# Altium integrated library Capacitor - Aluminium TH.IntLib: 4591 symbols (part 40 of 68)
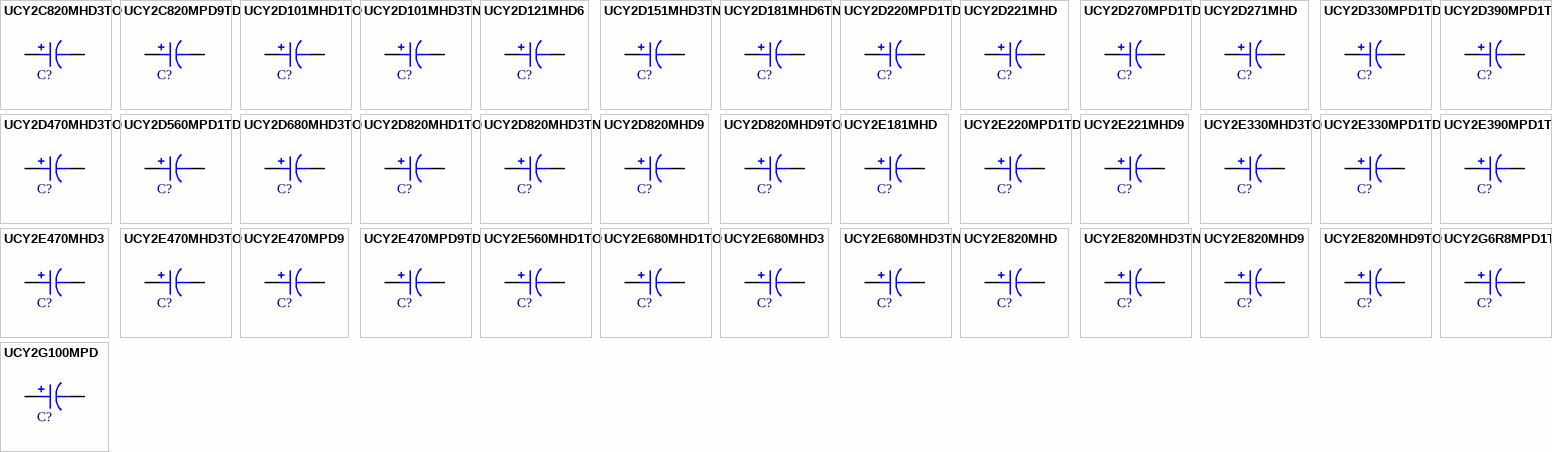
[diagram p153: symbols UCY2C820MHD3TO to UCY2G100MPD]

## UCY2E680MHD1TO
designator C?, comment 68uF  (value not drawn)
CAP ALUM 68UF 20% 250V RADIAL; Part Number: UCY2E680MHD1TO; Manufacturer: Nichicon; TemperatureRange: -40C ~ 105C; Type: Polar; Ripple Current: 615mA @ 120Hz; Value: 68uF; PartId: 23640; Supplier 1: Digi-Key; Supplier Part Number 1: 493-4821-3-ND; ComponentLink1Description: Datasheet; ComponentLink1URL: http://nichicon-us.com/english/products/pdfs/e-ucy.pdf; ComponentLink2Description: Digi-Key Listing; ComponentLink2URL: https://www.digikey.com/product-detail/en/nichicon/UCY2E680MHD1TO/493-4821-3-ND/3129826; Tolerance: 20%; Voltage: 250V; Price: 0.6082; Device Package: Radial, Can, 12.5mm
footprint CAP AL TH D12.5 L5 H26.5
pins: 1, 2

## UCY2E680MHD3
designator C?, comment 68uF  (value not drawn)
CAP ALUM 68UF 20% 250V RADIAL; Part Number: UCY2E680MHD3; Manufacturer: Nichicon; TemperatureRange: -40C ~ 105C; Type: Polar; Ripple Current: 650mA @ 120Hz; Value: 68uF; PartId: 26467; Supplier 1: Digi-Key; Supplier Part Number 1: 493-5932-ND; ComponentLink1Description: Datasheet; ComponentLink1URL: http://nichicon-us.com/english/products/pdfs/e-ucy.pdf; ComponentLink2Description: Digi-Key Listing; ComponentLink2URL: https://www.digikey.com/product-detail/en/nichicon/UCY2E680MHD3/493-5932-ND/2539808; Tolerance: 20%; Voltage: 250V; Price: 1.56; Device Package: Radial, Can, 16mm
footprint CAP AL TH D16 L7.5 H22
pins: 1, 2

## UCY2E680MHD3TN
designator C?, comment 68uF  (value not drawn)
CAP ALUM 68UF 20% 250V RADIAL; Part Number: UCY2E680MHD3TN; Manufacturer: Nichicon; TemperatureRange: -40C ~ 105C; Type: Polar; Ripple Current: 650mA @ 120Hz; Value: 68uF; PartId: 26390; Supplier 1: Digi-Key; Supplier Part Number 1: 493-4822-3-ND; ComponentLink1Description: Datasheet; ComponentLink1URL: http://nichicon-us.com/english/products/pdfs/e-ucy.pdf; ComponentLink2Description: Digi-Key Listing; ComponentLink2URL: https://www.digikey.com/product-detail/en/nichicon/UCY2E680MHD3TN/493-4822-3-ND/3129827; Tolerance: 20%; Voltage: 250V; Price: 0.8188; Device Package: Radial, Can, 16mm
footprint CAP AL TH D16 L7.5 H22
pins: 1, 2

## UCY2E820MHD
designator C?, comment 82uF  (value not drawn)
CAP ALUM 82UF 20% 250V RADIAL; Part Number: UCY2E820MHD; Manufacturer: Nichicon; TemperatureRange: -40C ~ 105C; Type: Polar; Ripple Current: 715mA @ 120Hz; Value: 82uF; PartId: 24374; Supplier 1: Digi-Key; Supplier Part Number 1: 493-5464-ND; ComponentLink1Description: Datasheet; ComponentLink1URL: http://nichicon-us.com/english/products/pdfs/e-ucy.pdf; ComponentLink2Description: Digi-Key Listing; ComponentLink2URL: https://www.digikey.com/product-detail/en/nichicon/UCY2E820MHD/493-5464-ND/2597734; Tolerance: 20%; Voltage: 250V; Price: 1.62; Device Package: Radial, Can, 12.5mm
footprint CAP AL TH D12.5 L5 H35.5
pins: 1, 2

## UCY2E820MHD3TN
designator C?, comment 82uF  (value not drawn)
CAP ALUM 82UF 20% 250V RADIAL; Part Number: UCY2E820MHD3TN; Manufacturer: Nichicon; TemperatureRange: -40C ~ 105C; Type: Polar; Ripple Current: 690mA @ 120Hz; Value: 82uF; PartId: 26396; Supplier 1: Digi-Key; Supplier Part Number 1: 493-4823-3-ND; ComponentLink1Description: Datasheet; ComponentLink1URL: http://nichicon-us.com/english/products/pdfs/e-ucy.pdf; ComponentLink2Description: Digi-Key Listing; ComponentLink2URL: https://www.digikey.com/product-detail/en/nichicon/UCY2E820MHD3TN/493-4823-3-ND/3129828; Tolerance: 20%; Voltage: 250V; Price: 0.8566; Device Package: Radial, Can, 16mm
footprint CAP AL TH D16 L7.5 H22
pins: 1, 2

## UCY2E820MHD9
designator C?, comment 82uF  (value not drawn)
CAP ALUM 82UF 20% 250V RADIAL; Part Number: UCY2E820MHD9; Manufacturer: Nichicon; TemperatureRange: -40C ~ 105C; Type: Polar; Ripple Current: 615mA @ 120Hz; Value: 82uF; PartId: 23739; Supplier 1: Digi-Key; Supplier Part Number 1: 493-6899-ND; ComponentLink1Description: Datasheet; ComponentLink1URL: http://nichicon-us.com/english/products/pdfs/e-ucy.pdf; ComponentLink2Description: Digi-Key Listing; ComponentLink2URL: https://www.digikey.com/product-detail/en/nichicon/UCY2E820MHD9/493-6899-ND/3664486; Tolerance: 20%; Voltage: 250V; Price: 1.55; Device Package: Radial, Can, 12.5mm
footprint CAP AL TH D12.5 L5 H26.5
pins: 1, 2

## UCY2E820MHD9TO
designator C?, comment 82uF  (value not drawn)
CAP ALUM 82UF 20% 250V RADIAL; Part Number: UCY2E820MHD9TO; Manufacturer: Nichicon; TemperatureRange: -40C ~ 105C; Type: Polar; Ripple Current: 615mA @ 120Hz; Value: 82uF; PartId: 23645; Supplier 1: Digi-Key; Supplier Part Number 1: 493-13312-3-ND; ComponentLink1Description: Datasheet; ComponentLink1URL: http://nichicon-us.com/english/products/pdfs/e-ucy.pdf; ComponentLink2Description: Digi-Key Listing; ComponentLink2URL: https://www.digikey.com/product-detail/en/nichicon/UCY2E820MHD9TO/493-13312-3-ND/4332943; Tolerance: 20%; Voltage: 250V; Price: 0.6934; Device Package: Radial, Can, 12.5mm
footprint CAP AL TH D12.5 L5 H26.5
pins: 1, 2

## UCY2G6R8MPD1TD
designator C?, comment 6.8uF  (value not drawn)
CAP ALUM 6.8UF 20% 400V RADIAL; Part Number: UCY2G6R8MPD1TD; Manufacturer: Nichicon; TemperatureRange: -40C ~ 105C; Type: Polar; Ripple Current: 140mA @ 120Hz; Value: 6.8uF; PartId: 25099; Supplier 1: Digi-Key; Supplier Part Number 1: 493-13319-3-ND; ComponentLink1Description: Datasheet; ComponentLink1URL: http://nichicon-us.com/english/products/pdfs/e-ucy.pdf; ComponentLink2Description: Digi-Key Listing; ComponentLink2URL: https://www.digikey.com/product-detail/en/nichicon/UCY2G6R8MPD1TD/493-13319-3-ND/4332950; Tolerance: 20%; Voltage: 400V; Price: 0.2806; Device Package: Radial, Can, 10mm
footprint CAP AL TH D10 L5 H17.5
pins: 1, 2

## UCY2G100MPD
designator C?, comment 10uF  (value not drawn)
CAP ALUM 10UF 20% 400V RADIAL; Part Number: UCY2G100MPD; Manufacturer: Nichicon; TemperatureRange: -40C ~ 105C; Type: Polar; Ripple Current: 150mA @ 120Hz; Value: 10uF; PartId: 25401; Supplier 1: Digi-Key; Supplier Part Number 1: 493-13387-ND; ComponentLink1Description: Datasheet; ComponentLink1URL: http://nichicon-us.com/english/products/pdfs/e-ucy.pdf; ComponentLink2Description: Digi-Key Listing; ComponentLink2URL: https://www.digikey.com/product-detail/en/nichicon/UCY2G100MPD/493-13387-ND/2597735; Tolerance: 20%; Voltage: 400V; Price: 0.8; Device Package: Radial, Can, 10mm
footprint CAP AL TH D10 L5 H17.5
pins: 1, 2

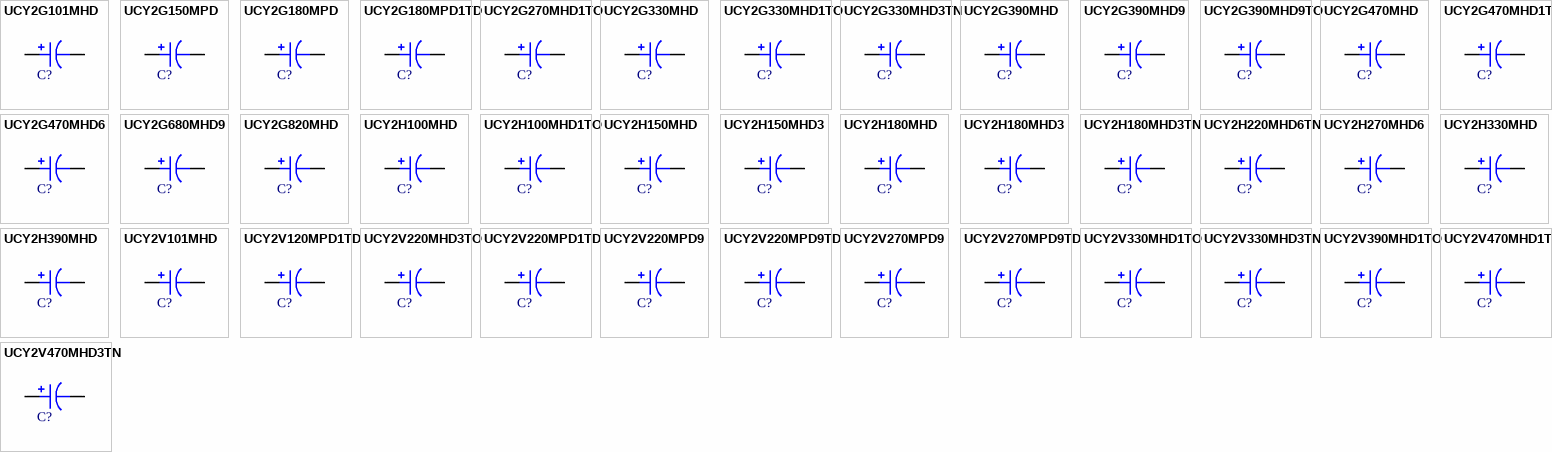
[diagram p65: symbols UCY2G101MHD to UCY2V470MHD3TN]

## UCY2G101MHD
designator C?, comment 100uF  (value not drawn)
CAP ALUM 100UF 20% 400V RADIAL; Part Number: UCY2G101MHD; Manufacturer: Nichicon; TemperatureRange: -40C ~ 105C; Type: Polar; Ripple Current: 850mA @ 120Hz; Value: 100uF; PartId: 27434; Supplier 1: Digi-Key; Supplier Part Number 1: 493-13075-ND; ComponentLink1Description: Datasheet; ComponentLink1URL: http://nichicon-us.com/english/products/pdfs/e-ucy.pdf; ComponentLink2Description: Digi-Key Listing; ComponentLink2URL: https://www.digikey.com/product-detail/en/nichicon/UCY2G101MHD/493-13075-ND/2597736; Tolerance: 20%; Voltage: 400V; Price: 3.28; Device Package: Radial, Can, 16mm
footprint CAP AL TH D16 L7.5 H37
pins: 1, 2

## UCY2G150MPD
designator C?, comment 15uF  (value not drawn)
CAP ALUM 15UF 20% 400V RADIAL; Part Number: UCY2G150MPD; Manufacturer: Nichicon; TemperatureRange: -40C ~ 105C; Type: Polar; Ripple Current: 180mA @ 120Hz; Value: 15uF; PartId: 25701; Supplier 1: Digi-Key; Supplier Part Number 1: 493-14460-ND; ComponentLink1Description: Datasheet; ComponentLink1URL: http://nichicon-us.com/english/products/pdfs/e-ucy.pdf; ComponentLink2Description: Digi-Key Listing; ComponentLink2URL: https://www.digikey.com/product-detail/en/nichicon/UCY2G150MPD/493-14460-ND/2597740; Tolerance: 20%; Voltage: 400V; Price: 0.87; Device Package: Radial, Can, 10mm
footprint CAP AL TH D10 L5 H22
pins: 1, 2

## UCY2G180MPD
designator C?, comment 18uF  (value not drawn)
CAP ALUM 18UF 20% 400V RADIAL; Part Number: UCY2G180MPD; Manufacturer: Nichicon; TemperatureRange: -40C ~ 105C; Type: Polar; Ripple Current: 235mA @ 120Hz; Value: 18uF; PartId: 26179; Supplier 1: Digi-Key; Supplier Part Number 1: 493-14461-ND; ComponentLink1Description: Datasheet; ComponentLink1URL: http://nichicon-us.com/english/products/pdfs/e-ucy.pdf; ComponentLink2Description: Digi-Key Listing; ComponentLink2URL: https://www.digikey.com/product-detail/en/nichicon/UCY2G180MPD/493-14461-ND/2597742; Tolerance: 20%; Voltage: 400V; Price: 0.99; Device Package: Radial, Can, 10mm
footprint CAP AL TH D10 L5 H30
pins: 1, 2

## UCY2G180MPD1TD
designator C?, comment 18uF  (value not drawn)
CAP ALUM 18UF 20% 400V RADIAL; Part Number: UCY2G180MPD1TD; Manufacturer: Nichicon; TemperatureRange: -40C ~ 105C; Type: Polar; Ripple Current: 235mA @ 120Hz; Value: 18uF; PartId: 26030; Supplier 1: Digi-Key; Supplier Part Number 1: 493-4824-3-ND; ComponentLink1Description: Datasheet; ComponentLink1URL: http://nichicon-us.com/english/products/pdfs/e-ucy.pdf; ComponentLink2Description: Digi-Key Listing; ComponentLink2URL: https://www.digikey.com/product-detail/en/nichicon/UCY2G180MPD1TD/493-4824-3-ND/3129829; Tolerance: 20%; Voltage: 400V; Price: 0.4428; Device Package: Radial, Can, 10mm
footprint CAP AL TH D10 L5 H30
pins: 1, 2

## UCY2G270MHD1TO
designator C?, comment 27uF  (value not drawn)
CAP ALUM 27UF 20% 400V RADIAL; Part Number: UCY2G270MHD1TO; Manufacturer: Nichicon; TemperatureRange: -40C ~ 105C; Type: Polar; Ripple Current: 360mA; Value: 27uF; PartId: 23056; Supplier 1: Digi-Key; Supplier Part Number 1: 493-4825-1-ND; ComponentLink1Description: Datasheet; ComponentLink1URL: http://nichicon-us.com/english/products/pdfs/e-ucy.pdf; ComponentLink2Description: Digi-Key Listing; ComponentLink2URL: https://www.digikey.com/product-detail/en/nichicon/UCY2G270MHD1TO/493-4825-1-ND/3129162; Tolerance: 20%; Voltage: 400V; Price: 0; Device Package: Radial, Can, 12.5mm
footprint CAP AL TH D12.5 L5 H21.5
pins: 1, 2

## UCY2G330MHD
designator C?, comment 33uF  (value not drawn)
CAP ALUM 33UF 20% 400V RADIAL; Part Number: UCY2G330MHD; Manufacturer: Nichicon; TemperatureRange: -40C ~ 105C; Type: Polar; Ripple Current: 385mA @ 120Hz; Value: 33uF; PartId: 23747; Supplier 1: Digi-Key; Supplier Part Number 1: 493-14462-ND; ComponentLink1Description: Datasheet; ComponentLink1URL: http://nichicon-us.com/english/products/pdfs/e-ucy.pdf; ComponentLink2Description: Digi-Key Listing; ComponentLink2URL: https://www.digikey.com/product-detail/en/nichicon/UCY2G330MHD/493-14462-ND/2597746; Tolerance: 20%; Voltage: 400V; Price: 1.67; Device Package: Radial, Can, 12.5mm
footprint CAP AL TH D12.5 L5 H26.5
pins: 1, 2

## UCY2G330MHD1TO
designator C?, comment 33uF  (value not drawn)
CAP ALUM 33UF 20% 400V RADIAL; Part Number: UCY2G330MHD1TO; Manufacturer: Nichicon; TemperatureRange: -40C ~ 105C; Type: Polar; Ripple Current: 385mA @ 120Hz; Value: 33uF; PartId: 23648; Supplier 1: Digi-Key; Supplier Part Number 1: 493-13316-3-ND; ComponentLink1Description: Datasheet; ComponentLink1URL: http://nichicon-us.com/english/products/pdfs/e-ucy.pdf; ComponentLink2Description: Digi-Key Listing; ComponentLink2URL: https://www.digikey.com/product-detail/en/nichicon/UCY2G330MHD1TO/493-13316-3-ND/4332947; Tolerance: 20%; Voltage: 400V; Price: 0.7475; Device Package: Radial, Can, 12.5mm
footprint CAP AL TH D12.5 L5 H26.5
pins: 1, 2

## UCY2G330MHD3TN
designator C?, comment 33uF  (value not drawn)
CAP ALUM 33UF 20% 400V RADIAL; Part Number: UCY2G330MHD3TN; Manufacturer: Nichicon; TemperatureRange: -40C ~ 105C; Type: Polar; Ripple Current: 450mA @ 120Hz; Value: 33uF; PartId: 26398; Supplier 1: Digi-Key; Supplier Part Number 1: 493-4826-3-ND; ComponentLink1Description: Datasheet; ComponentLink1URL: http://nichicon-us.com/english/products/pdfs/e-ucy.pdf; ComponentLink2Description: Digi-Key Listing; ComponentLink2URL: https://www.digikey.com/product-detail/en/nichicon/UCY2G330MHD3TN/493-4826-3-ND/3129831; Tolerance: 20%; Voltage: 400V; Price: 0.9045; Device Package: Radial, Can, 16mm
footprint CAP AL TH D16 L7.5 H22
pins: 1, 2

## UCY2G390MHD
designator C?, comment 39uF  (value not drawn)
CAP ALUM 39UF 20% 400V RADIAL; Part Number: UCY2G390MHD; Manufacturer: Nichicon; TemperatureRange: -40C ~ 105C; Type: Polar; Ripple Current: 465mA @ 120Hz; Value: 39uF; PartId: 24387; Supplier 1: Digi-Key; Supplier Part Number 1: 493-5469-ND; ComponentLink1Description: Datasheet; ComponentLink1URL: http://nichicon-us.com/english/products/pdfs/e-ucy.pdf; ComponentLink2Description: Digi-Key Listing; ComponentLink2URL: https://www.digikey.com/product-detail/en/nichicon/UCY2G390MHD/493-5469-ND/2597747; Tolerance: 20%; Voltage: 400V; Price: 1.74; Device Package: Radial, Can, 12.5mm
footprint CAP AL TH D12.5 L5 H35.5
pins: 1, 2

## UCY2G390MHD9
designator C?, comment 39uF  (value not drawn)
CAP ALUM 39UF 20% 400V RADIAL; Part Number: UCY2G390MHD9; Manufacturer: Nichicon; TemperatureRange: -40C ~ 105C; Type: Polar; Ripple Current: 385mA @ 120Hz; Value: 39uF; PartId: 23760; Supplier 1: Digi-Key; Supplier Part Number 1: 493-6980-ND; ComponentLink1Description: Datasheet; ComponentLink1URL: http://nichicon-us.com/english/products/pdfs/e-ucy.pdf; ComponentLink2Description: Digi-Key Listing; ComponentLink2URL: https://www.digikey.com/product-detail/en/nichicon/UCY2G390MHD9/493-6980-ND/3664469; Tolerance: 20%; Voltage: 400V; Price: 1.77; Device Package: Radial, Can, 12.5mm
footprint CAP AL TH D12.5 L5 H26.5
pins: 1, 2

## UCY2G390MHD9TO
designator C?, comment 39uF  (value not drawn)
CAP ALUM 39UF 20% 400V RADIAL; Part Number: UCY2G390MHD9TO; Manufacturer: Nichicon; TemperatureRange: -40C ~ 105C; Type: Polar; Ripple Current: 385mA @ 120Hz; Value: 39uF; PartId: 23649; Supplier 1: Digi-Key; Supplier Part Number 1: 493-13317-3-ND; ComponentLink1Description: Datasheet; ComponentLink1URL: http://nichicon-us.com/english/products/pdfs/e-ucy.pdf; ComponentLink2Description: Digi-Key Listing; ComponentLink2URL: https://www.digikey.com/product-detail/en/nichicon/UCY2G390MHD9TO/493-13317-3-ND/4332948; Tolerance: 20%; Voltage: 400V; Price: 0.7911; Device Package: Radial, Can, 12.5mm
footprint CAP AL TH D12.5 L5 H26.5
pins: 1, 2

## UCY2G470MHD
designator C?, comment 47uF  (value not drawn)
CAP ALUM 47UF 20% 400V RADIAL; Part Number: UCY2G470MHD; Manufacturer: Nichicon; TemperatureRange: -40C ~ 105C; Type: Polar; Ripple Current: 520mA @ 120Hz; Value: 47uF; PartId: 26486; Supplier 1: Digi-Key; Supplier Part Number 1: 493-14463-ND; ComponentLink1Description: Datasheet; ComponentLink1URL: http://nichicon-us.com/english/products/pdfs/e-ucy.pdf; ComponentLink2Description: Digi-Key Listing; ComponentLink2URL: https://www.digikey.com/product-detail/en/nichicon/UCY2G470MHD/493-14463-ND/2597748; Tolerance: 20%; Voltage: 400V; Price: 1.82; Device Package: Radial, Can, 16mm
footprint CAP AL TH D16 L7.5 H22
pins: 1, 2

## UCY2G470MHD1TN
designator C?, comment 47uF  (value not drawn)
CAP ALUM 47UF 20% 400V RADIAL; Part Number: UCY2G470MHD1TN; Manufacturer: Nichicon; TemperatureRange: -40C ~ 105C; Type: Polar; Ripple Current: 520mA @ 120Hz; Value: 47uF; PartId: 26404; Supplier 1: Digi-Key; Supplier Part Number 1: 493-4827-3-ND; ComponentLink1Description: Datasheet; ComponentLink1URL: http://nichicon-us.com/english/products/pdfs/e-ucy.pdf; ComponentLink2Description: Digi-Key Listing; ComponentLink2URL: https://www.digikey.com/product-detail/en/nichicon/UCY2G470MHD1TN/493-4827-3-ND/3129832; Tolerance: 20%; Voltage: 400V; Price: 0.9635; Device Package: Radial, Can, 16mm
footprint CAP AL TH D16 L7.5 H22
pins: 1, 2

## UCY2G470MHD6
designator C?, comment 47uF  (value not drawn)
CAP ALUM 47UF 20% 400V RADIAL; Part Number: UCY2G470MHD6; Manufacturer: Nichicon; TemperatureRange: -40C ~ 105C; Type: Polar; Ripple Current: 510mA @ 120Hz; Value: 47uF; PartId: 24389; Supplier 1: Digi-Key; Supplier Part Number 1: 493-6890-ND; ComponentLink1Description: Datasheet; ComponentLink1URL: http://nichicon-us.com/english/products/pdfs/e-ucy.pdf; ComponentLink2Description: Digi-Key Listing; ComponentLink2URL: https://www.digikey.com/product-detail/en/nichicon/UCY2G470MHD6/493-6890-ND/3664411; Tolerance: 20%; Voltage: 400V; Price: 1.79; Device Package: Radial, Can, 12.5mm
footprint CAP AL TH D12.5 L5 H35.5
pins: 1, 2

## UCY2G680MHD9
designator C?, comment 68uF  (value not drawn)
CAP ALUM 68UF 20% 400V RADIAL; Part Number: UCY2G680MHD9; Manufacturer: Nichicon; TemperatureRange: -40C ~ 105C; Type: Polar; Ripple Current: 640mA @ 120Hz; Value: 68uF; PartId: 26717; Supplier 1: Digi-Key; Supplier Part Number 1: 493-6889-ND; ComponentLink1Description: Datasheet; ComponentLink1URL: http://nichicon-us.com/english/products/pdfs/e-ucy.pdf; ComponentLink2Description: Digi-Key Listing; ComponentLink2URL: https://www.digikey.com/product-detail/en/nichicon/UCY2G680MHD9/493-6889-ND/3664417; Tolerance: 20%; Voltage: 400V; Price: 2.57; Device Package: Radial, Can, 16mm
footprint CAP AL TH D16 L7.5 H26.5
pins: 1, 2

## UCY2G820MHD
designator C?, comment 82uF  (value not drawn)
CAP ALUM 82UF 20% 400V RADIAL; Part Number: UCY2G820MHD; Manufacturer: Nichicon; TemperatureRange: -40C ~ 105C; Type: Polar; Ripple Current: 805mA @ 120Hz; Value: 82uF; PartId: 27274; Supplier 1: Digi-Key; Supplier Part Number 1: 493-13078-ND; ComponentLink1Description: Datasheet; ComponentLink1URL: http://nichicon-us.com/english/products/pdfs/e-ucy.pdf; ComponentLink2Description: Digi-Key Listing; ComponentLink2URL: https://www.digikey.com/product-detail/en/nichicon/UCY2G820MHD/493-13078-ND/2597754; Tolerance: 20%; Voltage: 400V; Price: 3.05; Device Package: Radial, Can, 16mm
footprint CAP AL TH D16 L7.5 H33.5
pins: 1, 2

## UCY2H100MHD
designator C?, comment 10uF  (value not drawn)
CAP ALUM 10UF 20% 500V RADIAL; Part Number: UCY2H100MHD; Manufacturer: Nichicon; TemperatureRange: -25C ~ 105C; Type: Polar; Ripple Current: 160mA @ 120Hz; Value: 10uF; PartId: 23059; Supplier 1: Digi-Key; Supplier Part Number 1: 493-6892-ND; ComponentLink1Description: Datasheet; ComponentLink1URL: http://nichicon-us.com/english/products/pdfs/e-ucy.pdf; ComponentLink2Description: Digi-Key Listing; ComponentLink2URL: https://www.digikey.com/product-detail/en/nichicon/UCY2H100MHD/493-6892-ND/3664442; Tolerance: 20%; Voltage: 500V; Price: 0; Device Package: Radial, Can, 12.5mm
footprint CAP AL TH D12.5 L5 H21.5
pins: 1, 2

## UCY2H100MHD1TO
designator C?, comment 10uF  (value not drawn)
CAP ALUM 10UF 20% 500V RADIAL; Part Number: UCY2H100MHD1TO; Manufacturer: Nichicon; TemperatureRange: -25C ~ 105C; Type: Polar; Ripple Current: 160mA; Value: 10uF; PartId: 23067; Supplier 1: Digi-Key; Supplier Part Number 1: 493-13320-1-ND; ComponentLink1Description: Datasheet; ComponentLink1URL: http://nichicon-us.com/english/products/pdfs/e-ucy.pdf; ComponentLink2Description: Digi-Key Listing; ComponentLink2URL: https://www.digikey.com/product-detail/en/nichicon/UCY2H100MHD1TO/493-13320-1-ND/4333066; Tolerance: 20%; Voltage: 500V; Price: 0; Device Package: Radial, Can, 12.5mm
footprint CAP AL TH D12.5 L5 H21.5
pins: 1, 2

## UCY2H150MHD
designator C?, comment 15uF  (value not drawn)
CAP ALUM 15UF 20% 500V RADIAL; Part Number: UCY2H150MHD; Manufacturer: Nichicon; TemperatureRange: -25C ~ 105C; Type: Polar; Ripple Current: 220mA @ 120Hz; Value: 15uF; PartId: 23768; Supplier 1: Digi-Key; Supplier Part Number 1: 493-6954-ND; ComponentLink1Description: Datasheet; ComponentLink1URL: http://nichicon-us.com/english/products/pdfs/e-ucy.pdf; ComponentLink2Description: Digi-Key Listing; ComponentLink2URL: https://www.digikey.com/product-detail/en/nichicon/UCY2H150MHD/493-6954-ND/3664446; Tolerance: 20%; Voltage: 500V; Price: 1.87; Device Package: Radial, Can, 12.5mm
footprint CAP AL TH D12.5 L5 H26.5
pins: 1, 2

## UCY2H150MHD3
designator C?, comment 15uF  (value not drawn)
CAP ALUM 15UF 20% 500V RADIAL; Part Number: UCY2H150MHD3; Manufacturer: Nichicon; TemperatureRange: -25C ~ 105C; Type: Polar; Ripple Current: 220mA @ 120Hz; Value: 15uF; PartId: 26493; Supplier 1: Digi-Key; Supplier Part Number 1: 493-6917-ND; ComponentLink1Description: Datasheet; ComponentLink1URL: http://nichicon-us.com/english/products/pdfs/e-ucy.pdf; ComponentLink2Description: Digi-Key Listing; ComponentLink2URL: https://www.digikey.com/product-detail/en/nichicon/UCY2H150MHD3/493-6917-ND/3664449; Tolerance: 20%; Voltage: 500V; Price: 1.98; Device Package: Radial, Can, 16mm
footprint CAP AL TH D16 L7.5 H22
pins: 1, 2

## UCY2H180MHD
designator C?, comment 18uF  (value not drawn)
CAP ALUM 18UF 20% 500V RADIAL; Part Number: UCY2H180MHD; Manufacturer: Nichicon; TemperatureRange: -25C ~ 105C; Type: Polar; Ripple Current: 240mA @ 120Hz; Value: 18uF; PartId: 24410; Supplier 1: Digi-Key; Supplier Part Number 1: 493-6891-ND; ComponentLink1Description: Datasheet; ComponentLink1URL: http://nichicon-us.com/english/products/pdfs/e-ucy.pdf; ComponentLink2Description: Digi-Key Listing; ComponentLink2URL: https://www.digikey.com/product-detail/en/nichicon/UCY2H180MHD/493-6891-ND/3664491; Tolerance: 20%; Voltage: 500V; Price: 2; Device Package: Radial, Can, 12.5mm
footprint CAP AL TH D12.5 L5 H35.5
pins: 1, 2

## UCY2H180MHD3
designator C?, comment 18uF  (value not drawn)
CAP ALUM 18UF 20% 500V RADIAL; Part Number: UCY2H180MHD3; Manufacturer: Nichicon; TemperatureRange: -25C ~ 105C; Type: Polar; Ripple Current: 240mA @ 120Hz; Value: 18uF; PartId: 26496; Supplier 1: Digi-Key; Supplier Part Number 1: 493-6937-ND; ComponentLink1Description: Datasheet; ComponentLink1URL: http://nichicon-us.com/english/products/pdfs/e-ucy.pdf; ComponentLink2Description: Digi-Key Listing; ComponentLink2URL: https://www.digikey.com/product-detail/en/nichicon/UCY2H180MHD3/493-6937-ND/3664453; Tolerance: 20%; Voltage: 500V; Price: 2.2; Device Package: Radial, Can, 16mm
footprint CAP AL TH D16 L7.5 H22
pins: 1, 2

## UCY2H180MHD3TN
designator C?, comment 18uF  (value not drawn)
CAP ALUM 18UF 20% 500V RADIAL; Part Number: UCY2H180MHD3TN; Manufacturer: Nichicon; TemperatureRange: -25C ~ 105C; Type: Polar; Ripple Current: 240mA @ 120Hz; Value: 18uF; PartId: 26418; Supplier 1: Digi-Key; Supplier Part Number 1: 493-13323-3-ND; ComponentLink1Description: Datasheet; ComponentLink1URL: http://nichicon-us.com/english/products/pdfs/e-ucy.pdf; ComponentLink2Description: Digi-Key Listing; ComponentLink2URL: https://www.digikey.com/product-detail/en/nichicon/UCY2H180MHD3TN/493-13323-3-ND/4332954; Tolerance: 20%; Voltage: 500V; Price: 1.1638; Device Package: Radial, Can, 16mm
footprint CAP AL TH D16 L7.5 H22
pins: 1, 2

## UCY2H220MHD6TN
designator C?, comment 22uF  (value not drawn)
CAP ALUM 22UF 20% 500V RADIAL; Part Number: UCY2H220MHD6TN; Manufacturer: Nichicon; TemperatureRange: -25C ~ 105C; Type: Polar; Ripple Current: 280mA @ 120Hz; Value: 22uF; PartId: 26599; Supplier 1: Digi-Key; Supplier Part Number 1: 493-13325-3-ND; ComponentLink1Description: Datasheet; ComponentLink1URL: http://nichicon-us.com/english/products/pdfs/e-ucy.pdf; ComponentLink2Description: Digi-Key Listing; ComponentLink2URL: https://www.digikey.com/product-detail/en/nichicon/UCY2H220MHD6TN/493-13325-3-ND/4332956; Tolerance: 20%; Voltage: 500V; Price: 1.3276; Device Package: Radial, Can, 16mm
footprint CAP AL TH D16 L7.5 H26.5
pins: 1, 2

## UCY2H270MHD6
designator C?, comment 27uF  (value not drawn)
CAP ALUM 27UF 20% 500V RADIAL; Part Number: UCY2H270MHD6; Manufacturer: Nichicon; TemperatureRange: -25C ~ 105C; Type: Polar; Ripple Current: 310mA @ 120Hz; Value: 27uF; PartId: 26723; Supplier 1: Digi-Key; Supplier Part Number 1: 493-6815-ND; ComponentLink1Description: Datasheet; ComponentLink1URL: http://nichicon-us.com/english/products/pdfs/e-ucy.pdf; ComponentLink2Description: Digi-Key Listing; ComponentLink2URL: https://www.digikey.com/product-detail/en/nichicon/UCY2H270MHD6/493-6815-ND/3664372; Tolerance: 20%; Voltage: 500V; Price: 2.79; Device Package: Radial, Can, 16mm
footprint CAP AL TH D16 L7.5 H26.5
pins: 1, 2

## UCY2H330MHD
designator C?, comment 33uF  (value not drawn)
CAP ALUM 33UF 20% 500V RADIAL; Part Number: UCY2H330MHD; Manufacturer: Nichicon; TemperatureRange: -25C ~ 105C; Type: Polar; Ripple Current: 350mA @ 120Hz; Value: 33uF; PartId: 27297; Supplier 1: Digi-Key; Supplier Part Number 1: 493-6920-ND; ComponentLink1Description: Datasheet; ComponentLink1URL: http://nichicon-us.com/english/products/pdfs/e-ucy.pdf; ComponentLink2Description: Digi-Key Listing; ComponentLink2URL: https://www.digikey.com/product-detail/en/nichicon/UCY2H330MHD/493-6920-ND/3664390; Tolerance: 20%; Voltage: 500V; Price: 3.36; Device Package: Radial, Can, 16mm
footprint CAP AL TH D16 L7.5 H33.5
pins: 1, 2

## UCY2H390MHD
designator C?, comment 39uF  (value not drawn)
CAP ALUM 39UF 20% 500V RADIAL; Part Number: UCY2H390MHD; Manufacturer: Nichicon; TemperatureRange: -25C ~ 105C; Type: Polar; Ripple Current: 380mA @ 120Hz; Value: 39uF; PartId: 27443; Supplier 1: Digi-Key; Supplier Part Number 1: 493-6915-ND; ComponentLink1Description: Datasheet; ComponentLink1URL: http://nichicon-us.com/english/products/pdfs/e-ucy.pdf; ComponentLink2Description: Digi-Key Listing; ComponentLink2URL: https://www.digikey.com/product-detail/en/nichicon/UCY2H390MHD/493-6915-ND/3664475; Tolerance: 20%; Voltage: 500V; Price: 3.49; Device Package: Radial, Can, 16mm
footprint CAP AL TH D16 L7.5 H37
pins: 1, 2

## UCY2V101MHD
designator C?, comment 100uF  (value not drawn)
CAP ALUM 100UF 20% 350V RADIAL; Part Number: UCY2V101MHD; Manufacturer: Nichicon; TemperatureRange: -40C ~ 105C; Type: Polar; Ripple Current: 825mA @ 120Hz; Value: 100uF; PartId: 27252; Supplier 1: Digi-Key; Supplier Part Number 1: 493-5471-ND; ComponentLink1Description: Datasheet; ComponentLink1URL: http://nichicon-us.com/english/products/pdfs/e-ucy.pdf; ComponentLink2Description: Digi-Key Listing; ComponentLink2URL: https://www.digikey.com/product-detail/en/nichicon/UCY2V101MHD/493-5471-ND/2597755; Tolerance: 20%; Voltage: 350V; Price: 2.68; Device Package: Radial, Can, 16mm
footprint CAP AL TH D16 L7.5 H33.5
pins: 1, 2

## UCY2V120MPD1TD
designator C?, comment 12uF  (value not drawn)
CAP ALUM 12UF 20% 350V RADIAL; Part Number: UCY2V120MPD1TD; Manufacturer: Nichicon; TemperatureRange: -40C ~ 105C; Type: Polar; Ripple Current: 160mA @ 120Hz; Value: 12uF; PartId: 25111; Supplier 1: Digi-Key; Supplier Part Number 1: 493-4834-3-ND; ComponentLink1Description: Datasheet; ComponentLink1URL: http://nichicon-us.com/english/products/pdfs/e-ucy.pdf; ComponentLink2Description: Digi-Key Listing; ComponentLink2URL: https://www.digikey.com/product-detail/en/nichicon/UCY2V120MPD1TD/493-4834-3-ND/3129839; Tolerance: 20%; Voltage: 350V; Price: 0.3057; Device Package: Radial, Can, 10mm
footprint CAP AL TH D10 L5 H17.5
pins: 1, 2

## UCY2V220MHD3TO
designator C?, comment 22uF  (value not drawn)
CAP ALUM 22UF 20% 350V RADIAL; Part Number: UCY2V220MHD3TO; Manufacturer: Nichicon; TemperatureRange: -40C ~ 105C; Type: Polar; Ripple Current: 325mA; Value: 22uF; PartId: 23068; Supplier 1: Digi-Key; Supplier Part Number 1: 493-4835-1-ND; ComponentLink1Description: Datasheet; ComponentLink1URL: http://nichicon-us.com/english/products/pdfs/e-ucy.pdf; ComponentLink2Description: Digi-Key Listing; ComponentLink2URL: https://www.digikey.com/product-detail/en/nichicon/UCY2V220MHD3TO/493-4835-1-ND/3129172; Tolerance: 20%; Voltage: 350V; Price: 0; Device Package: Radial, Can, 12.5mm
footprint CAP AL TH D12.5 L5 H21.5
pins: 1, 2

## UCY2V220MPD1TD
designator C?, comment 22uF  (value not drawn)
CAP ALUM 22UF 20% 350V RADIAL; Part Number: UCY2V220MPD1TD; Manufacturer: Nichicon; TemperatureRange: -40C ~ 105C; Type: Polar; Ripple Current: 255mA @ 120Hz; Value: 22uF; PartId: 26031; Supplier 1: Digi-Key; Supplier Part Number 1: 493-4836-3-ND; ComponentLink1Description: Datasheet; ComponentLink1URL: http://nichicon-us.com/english/products/pdfs/e-ucy.pdf; ComponentLink2Description: Digi-Key Listing; ComponentLink2URL: https://www.digikey.com/product-detail/en/nichicon/UCY2V220MPD1TD/493-4836-3-ND/3129841; Tolerance: 20%; Voltage: 350V; Price: 0.4428; Device Package: Radial, Can, 10mm
footprint CAP AL TH D10 L5 H30
pins: 1, 2

## UCY2V220MPD9
designator C?, comment 22uF  (value not drawn)
CAP ALUM 22UF 20% 350V RADIAL; Part Number: UCY2V220MPD9; Manufacturer: Nichicon; TemperatureRange: -40C ~ 105C; Type: Polar; Ripple Current: 215mA @ 120Hz; Value: 22uF; PartId: 25708; Supplier 1: Digi-Key; Supplier Part Number 1: 493-6988-ND; ComponentLink1Description: Datasheet; ComponentLink1URL: http://nichicon-us.com/english/products/pdfs/e-ucy.pdf; ComponentLink2Description: Digi-Key Listing; ComponentLink2URL: https://www.digikey.com/product-detail/en/nichicon/UCY2V220MPD9/493-6988-ND/3664322; Tolerance: 20%; Voltage: 350V; Price: 1.02; Device Package: Radial, Can, 10mm
footprint CAP AL TH D10 L5 H22
pins: 1, 2

## UCY2V220MPD9TD
designator C?, comment 22uF  (value not drawn)
CAP ALUM 22UF 20% 350V RADIAL; Part Number: UCY2V220MPD9TD; Manufacturer: Nichicon; TemperatureRange: -40C ~ 105C; Type: Polar; Ripple Current: 215mA @ 120Hz; Value: 22uF; PartId: 25494; Supplier 1: Digi-Key; Supplier Part Number 1: 493-13330-3-ND; ComponentLink1Description: Datasheet; ComponentLink1URL: http://nichicon-us.com/english/products/pdfs/e-ucy.pdf; ComponentLink2Description: Digi-Key Listing; ComponentLink2URL: https://www.digikey.com/product-detail/en/nichicon/UCY2V220MPD9TD/493-13330-3-ND/4332961; Tolerance: 20%; Voltage: 350V; Price: 0.4289; Device Package: Radial, Can, 10mm
footprint CAP AL TH D10 L5 H22
pins: 1, 2

## UCY2V270MPD9
designator C?, comment 27uF  (value not drawn)
CAP ALUM 27UF 20% 350V RADIAL; Part Number: UCY2V270MPD9; Manufacturer: Nichicon; TemperatureRange: -40C ~ 105C; Type: Polar; Ripple Current: 255mA @ 120Hz; Value: 27uF; PartId: 26188; Supplier 1: Digi-Key; Supplier Part Number 1: 493-6834-ND; ComponentLink1Description: Datasheet; ComponentLink1URL: http://nichicon-us.com/english/products/pdfs/e-ucy.pdf; ComponentLink2Description: Digi-Key Listing; ComponentLink2URL: https://www.digikey.com/product-detail/en/nichicon/UCY2V270MPD9/493-6834-ND/3664327; Tolerance: 20%; Voltage: 350V; Price: 1.09; Device Package: Radial, Can, 10mm
footprint CAP AL TH D10 L5 H30
pins: 1, 2

## UCY2V270MPD9TD
designator C?, comment 27uF  (value not drawn)
CAP ALUM 27UF 20% 350V RADIAL; Part Number: UCY2V270MPD9TD; Manufacturer: Nichicon; TemperatureRange: -40C ~ 105C; Type: Polar; Ripple Current: 255mA @ 120Hz; Value: 27uF; PartId: 26037; Supplier 1: Digi-Key; Supplier Part Number 1: 493-13094-3-ND; ComponentLink1Description: Datasheet; ComponentLink1URL: http://nichicon-us.com/english/products/pdfs/e-ucy.pdf; ComponentLink2Description: Digi-Key Listing; ComponentLink2URL: https://www.digikey.com/product-detail/en/nichicon/UCY2V270MPD9TD/493-13094-3-ND/4332725; Tolerance: 20%; Voltage: 350V; Price: 0.4885; Device Package: Radial, Can, 10mm
footprint CAP AL TH D10 L5 H30
pins: 1, 2

## UCY2V330MHD1TO
designator C?, comment 33uF  (value not drawn)
CAP ALUM 33UF 20% 350V RADIAL; Part Number: UCY2V330MHD1TO; Manufacturer: Nichicon; TemperatureRange: -40C ~ 105C; Type: Polar; Ripple Current: 380mA; Value: 33uF; PartId: 23057; Supplier 1: Digi-Key; Supplier Part Number 1: 493-4837-1-ND; ComponentLink1Description: Datasheet; ComponentLink1URL: http://nichicon-us.com/english/products/pdfs/e-ucy.pdf; ComponentLink2Description: Digi-Key Listing; ComponentLink2URL: https://www.digikey.com/product-detail/en/nichicon/UCY2V330MHD1TO/493-4837-1-ND/3129174; Tolerance: 20%; Voltage: 350V; Price: 0; Device Package: Radial, Can, 12.5mm
footprint CAP AL TH D12.5 L5 H21.5
pins: 1, 2

## UCY2V330MHD3TN
designator C?, comment 33uF  (value not drawn)
CAP ALUM 33UF 20% 350V RADIAL; Part Number: UCY2V330MHD3TN; Manufacturer: Nichicon; TemperatureRange: -40C ~ 105C; Type: Polar; Ripple Current: 450mA @ 120Hz; Value: 33uF; PartId: 26383; Supplier 1: Digi-Key; Supplier Part Number 1: 493-4838-3-ND; ComponentLink1Description: Datasheet; ComponentLink1URL: http://nichicon-us.com/english/products/pdfs/e-ucy.pdf; ComponentLink2Description: Digi-Key Listing; ComponentLink2URL: https://www.digikey.com/product-detail/en/nichicon/UCY2V330MHD3TN/493-4838-3-ND/3129843; Tolerance: 20%; Voltage: 350V; Price: 0.7944; Device Package: Radial, Can, 16mm
footprint CAP AL TH D16 L7.5 H22
pins: 1, 2

## UCY2V390MHD1TO
designator C?, comment 39uF  (value not drawn)
CAP ALUM 39UF 20% 350V RADIAL; Part Number: UCY2V390MHD1TO; Manufacturer: Nichicon; TemperatureRange: -40C ~ 105C; Type: Polar; Ripple Current: 455mA; Value: 39uF; PartId: 23746; Supplier 1: Digi-Key; Supplier Part Number 1: 493-13331-1-ND; ComponentLink1Description: Datasheet; ComponentLink1URL: http://nichicon-us.com/english/products/pdfs/e-ucy.pdf; ComponentLink2Description: Digi-Key Listing; ComponentLink2URL: https://www.digikey.com/product-detail/en/nichicon/UCY2V390MHD1TO/493-13331-1-ND/4333054; Tolerance: 20%; Voltage: 350V; Price: 1.66; Device Package: Radial, Can, 12.5mm
footprint CAP AL TH D12.5 L5 H26.5
pins: 1, 2

## UCY2V470MHD1TO
designator C?, comment 47uF  (value not drawn)
CAP ALUM 47UF 20% 350V RADIAL; Part Number: UCY2V470MHD1TO; Manufacturer: Nichicon; TemperatureRange: -40C ~ 105C; Type: Polar; Ripple Current: 510mA; Value: 47uF; PartId: 23765; Supplier 1: Digi-Key; Supplier Part Number 1: 493-4839-1-ND; ComponentLink1Description: Datasheet; ComponentLink1URL: http://nichicon-us.com/english/products/pdfs/e-ucy.pdf; ComponentLink2Description: Digi-Key Listing; ComponentLink2URL: https://www.digikey.com/product-detail/en/nichicon/UCY2V470MHD1TO/493-4839-1-ND/3129176; Tolerance: 20%; Voltage: 350V; Price: 1.83; Device Package: Radial, Can, 12.5mm
footprint CAP AL TH D12.5 L5 H26.5
pins: 1, 2

## UCY2V470MHD3TN
designator C?, comment 47uF  (value not drawn)
CAP ALUM 47UF 20% 350V RADIAL; Part Number: UCY2V470MHD3TN; Manufacturer: Nichicon; TemperatureRange: -40C ~ 105C; Type: Polar; Ripple Current: 540mA @ 120Hz; Value: 47uF; PartId: 26399; Supplier 1: Digi-Key; Supplier Part Number 1: 493-4840-3-ND; ComponentLink1Description: Datasheet; ComponentLink1URL: http://nichicon-us.com/english/products/pdfs/e-ucy.pdf; ComponentLink2Description: Digi-Key Listing; ComponentLink2URL: https://www.digikey.com/product-detail/en/nichicon/UCY2V470MHD3TN/493-4840-3-ND/3129845; Tolerance: 20%; Voltage: 350V; Price: 0.9124; Device Package: Radial, Can, 16mm
footprint CAP AL TH D16 L7.5 H22
pins: 1, 2

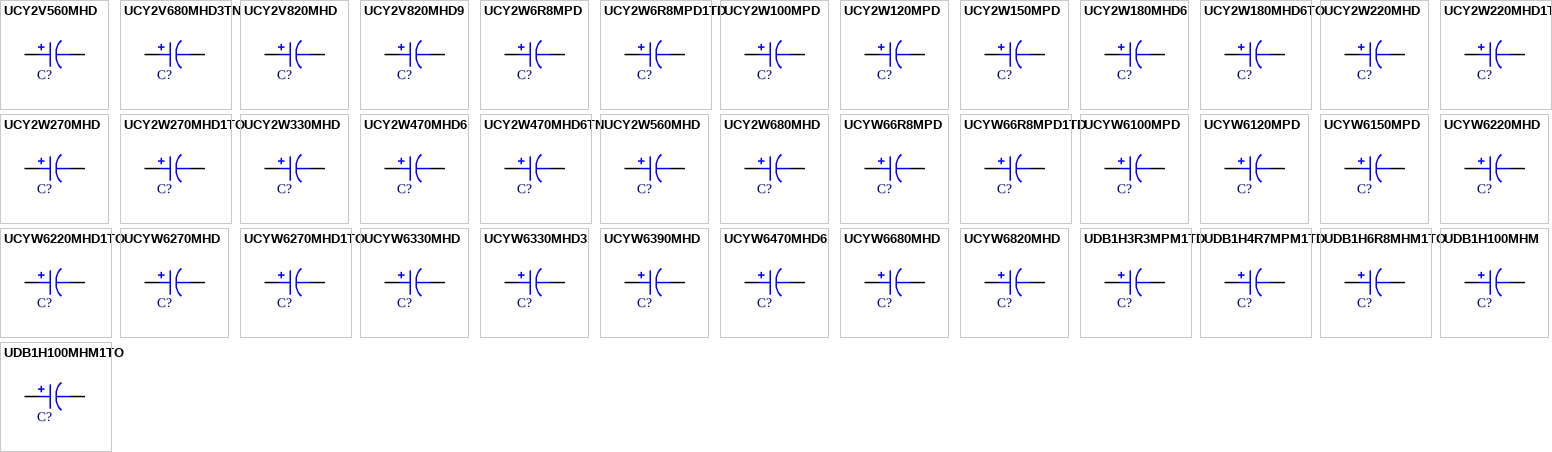
[diagram p66: symbols UCY2V560MHD to UDB1H100MHM1TO]

## UCY2V560MHD
designator C?, comment 56uF  (value not drawn)
CAP ALUM 56UF 20% 350V RADIAL; Part Number: UCY2V560MHD; Manufacturer: Nichicon; TemperatureRange: -40C ~ 105C; Type: Polar; Ripple Current: 590mA @ 120Hz; Value: 56uF; PartId: 24386; Supplier 1: Digi-Key; Supplier Part Number 1: 493-13081-ND; ComponentLink1Description: Datasheet; ComponentLink1URL: http://nichicon-us.com/english/products/pdfs/e-ucy.pdf; ComponentLink2Description: Digi-Key Listing; ComponentLink2URL: https://www.digikey.com/product-detail/en/nichicon/UCY2V560MHD/493-13081-ND/2597768; Tolerance: 20%; Voltage: 350V; Price: 1.74; Device Package: Radial, Can, 12.5mm
footprint CAP AL TH D12.5 L5 H35.5
pins: 1, 2

## UCY2V680MHD3TN
designator C?, comment 68uF  (value not drawn)
CAP ALUM 68UF 20% 350V RADIAL; Part Number: UCY2V680MHD3TN; Manufacturer: Nichicon; TemperatureRange: -40C ~ 105C; Type: Polar; Ripple Current: 700mA @ 120Hz; Value: 68uF; PartId: 26555; Supplier 1: Digi-Key; Supplier Part Number 1: 493-4841-3-ND; ComponentLink1Description: Datasheet; ComponentLink1URL: http://nichicon-us.com/english/products/pdfs/e-ucy.pdf; ComponentLink2Description: Digi-Key Listing; ComponentLink2URL: https://www.digikey.com/product-detail/en/nichicon/UCY2V680MHD3TN/493-4841-3-ND/3129846; Tolerance: 20%; Voltage: 350V; Price: 1.0766; Device Package: Radial, Can, 16mm
footprint CAP AL TH D16 L7.5 H26.5
pins: 1, 2

## UCY2V820MHD
designator C?, comment 82uF  (value not drawn)
CAP ALUM 82UF 20% 350V RADIAL; Part Number: UCY2V820MHD; Manufacturer: Nichicon; TemperatureRange: -40C ~ 105C; Type: Polar; Ripple Current: 740mA @ 120Hz; Value: 82uF; PartId: 27224; Supplier 1: Digi-Key; Supplier Part Number 1: 493-5476-ND; ComponentLink1Description: Datasheet; ComponentLink1URL: http://nichicon-us.com/english/products/pdfs/e-ucy.pdf; ComponentLink2Description: Digi-Key Listing; ComponentLink2URL: https://www.digikey.com/product-detail/en/nichicon/UCY2V820MHD/493-5476-ND/2597773; Tolerance: 20%; Voltage: 350V; Price: 2.36; Device Package: Radial, Can, 16mm
footprint CAP AL TH D16 L7.5 H33.5
pins: 1, 2

## UCY2V820MHD9
designator C?, comment 82uF  (value not drawn)
CAP ALUM 82UF 20% 350V RADIAL; Part Number: UCY2V820MHD9; Manufacturer: Nichicon; TemperatureRange: -40C ~ 105C; Type: Polar; Ripple Current: 700mA @ 120Hz; Value: 82uF; PartId: 26714; Supplier 1: Digi-Key; Supplier Part Number 1: 493-6941-ND; ComponentLink1Description: Datasheet; ComponentLink1URL: http://nichicon-us.com/english/products/pdfs/e-ucy.pdf; ComponentLink2Description: Digi-Key Listing; ComponentLink2URL: https://www.digikey.com/product-detail/en/nichicon/UCY2V820MHD9/493-6941-ND/3664334; Tolerance: 20%; Voltage: 350V; Price: 2.46; Device Package: Radial, Can, 16mm
footprint CAP AL TH D16 L7.5 H26.5
pins: 1, 2

## UCY2W6R8MPD
designator C?, comment 6.8uF  (value not drawn)
CAP ALUM 6.8UF 20% 450V RADIAL; Part Number: UCY2W6R8MPD; Manufacturer: Nichicon; TemperatureRange: -25C ~ 105C; Type: Polar; Ripple Current: 105mA @ 120Hz; Value: 6.8uF; PartId: 25408; Supplier 1: Digi-Key; Supplier Part Number 1: 493-6862-ND; ComponentLink1Description: Datasheet; ComponentLink1URL: http://nichicon-us.com/english/products/pdfs/e-ucy.pdf; ComponentLink2Description: Digi-Key Listing; ComponentLink2URL: https://www.digikey.com/product-detail/en/nichicon/UCY2W6R8MPD/493-6862-ND/3664436; Tolerance: 20%; Voltage: 450V; Price: 0.83; Device Package: Radial, Can, 10mm
footprint CAP AL TH D10 L5 H17.5
pins: 1, 2

## UCY2W6R8MPD1TD
designator C?, comment 6.8uF  (value not drawn)
CAP ALUM 6.8UF 20% 450V RADIAL; Part Number: UCY2W6R8MPD1TD; Manufacturer: Nichicon; TemperatureRange: -25C ~ 105C; Type: Polar; Ripple Current: 105mA @ 120Hz; Value: 6.8uF; PartId: 25122; Supplier 1: Digi-Key; Supplier Part Number 1: 493-13344-3-ND; ComponentLink1Description: Datasheet; ComponentLink1URL: http://nichicon-us.com/english/products/pdfs/e-ucy.pdf; ComponentLink2Description: Digi-Key Listing; ComponentLink2URL: https://www.digikey.com/product-detail/en/nichicon/UCY2W6R8MPD1TD/493-13344-3-ND/4332975; Tolerance: 20%; Voltage: 450V; Price: 0.3327; Device Package: Radial, Can, 10mm
footprint CAP AL TH D10 L5 H17.5
pins: 1, 2

## UCY2W100MPD
designator C?, comment 10uF  (value not drawn)
CAP ALUM 10UF 20% 450V RADIAL; Part Number: UCY2W100MPD; Manufacturer: Nichicon; TemperatureRange: -25C ~ 105C; Type: Polar; Ripple Current: 135mA @ 120Hz; Value: 10uF; PartId: 25702; Supplier 1: Digi-Key; Supplier Part Number 1: 493-6858-ND; ComponentLink1Description: Datasheet; ComponentLink1URL: http://nichicon-us.com/english/products/pdfs/e-ucy.pdf; ComponentLink2Description: Digi-Key Listing; ComponentLink2URL: https://www.digikey.com/product-detail/en/nichicon/UCY2W100MPD/493-6858-ND/3664441; Tolerance: 20%; Voltage: 450V; Price: 0.89; Device Package: Radial, Can, 10mm
footprint CAP AL TH D10 L5 H22
pins: 1, 2

## UCY2W120MPD
designator C?, comment 12uF  (value not drawn)
CAP ALUM 12UF 20% 450V RADIAL; Part Number: UCY2W120MPD; Manufacturer: Nichicon; TemperatureRange: -25C ~ 105C; Type: Polar; Ripple Current: 150mA @ 120Hz; Value: 12uF; PartId: 25710; Supplier 1: Digi-Key; Supplier Part Number 1: 493-6836-ND; ComponentLink1Description: Datasheet; ComponentLink1URL: http://nichicon-us.com/english/products/pdfs/e-ucy.pdf; ComponentLink2Description: Digi-Key Listing; ComponentLink2URL: https://www.digikey.com/product-detail/en/nichicon/UCY2W120MPD/493-6836-ND/3664447; Tolerance: 20%; Voltage: 450V; Price: 1.04; Device Package: Radial, Can, 10mm
footprint CAP AL TH D10 L5 H22
pins: 1, 2

## UCY2W150MPD
designator C?, comment 15uF  (value not drawn)
CAP ALUM 15UF 20% 450V RADIAL; Part Number: UCY2W150MPD; Manufacturer: Nichicon; TemperatureRange: -25C ~ 105C; Type: Polar; Ripple Current: 185mA @ 120Hz; Value: 15uF; PartId: 26189; Supplier 1: Digi-Key; Supplier Part Number 1: 493-6955-ND; ComponentLink1Description: Datasheet; ComponentLink1URL: http://nichicon-us.com/english/products/pdfs/e-ucy.pdf; ComponentLink2Description: Digi-Key Listing; ComponentLink2URL: https://www.digikey.com/product-detail/en/nichicon/UCY2W150MPD/493-6955-ND/3664451; Tolerance: 20%; Voltage: 450V; Price: 1.09; Device Package: Radial, Can, 10mm
footprint CAP AL TH D10 L5 H30
pins: 1, 2

## UCY2W180MHD6
designator C?, comment 18uF  (value not drawn)
CAP ALUM 18UF 20% 450V RADIAL; Part Number: UCY2W180MHD6; Manufacturer: Nichicon; TemperatureRange: -25C ~ 105C; Type: Polar; Ripple Current: 255mA @ 120Hz; Value: 18uF; PartId: 23047; Supplier 1: Digi-Key; Supplier Part Number 1: 493-6895-ND; ComponentLink1Description: Datasheet; ComponentLink1URL: http://nichicon-us.com/english/products/pdfs/e-ucy.pdf; ComponentLink2Description: Digi-Key Listing; ComponentLink2URL: https://www.digikey.com/product-detail/en/nichicon/UCY2W180MHD6/493-6895-ND/3664455; Tolerance: 20%; Voltage: 450V; Price: 0; Device Package: Radial, Can, 12.5mm
footprint CAP AL TH D12.5 L5 H21.5
pins: 1, 2

## UCY2W180MHD6TO
designator C?, comment 18uF  (value not drawn)
CAP ALUM 18UF 20% 450V RADIAL; Part Number: UCY2W180MHD6TO; Manufacturer: Nichicon; TemperatureRange: -25C ~ 105C; Type: Polar; Ripple Current: 255mA; Value: 18uF; PartId: 23055; Supplier 1: Digi-Key; Supplier Part Number 1: 493-13337-1-ND; ComponentLink1Description: Datasheet; ComponentLink1URL: http://nichicon-us.com/english/products/pdfs/e-ucy.pdf; ComponentLink2Description: Digi-Key Listing; ComponentLink2URL: https://www.digikey.com/product-detail/en/nichicon/UCY2W180MHD6TO/493-13337-1-ND/4333080; Tolerance: 20%; Voltage: 450V; Price: 0; Device Package: Radial, Can, 12.5mm
footprint CAP AL TH D12.5 L5 H21.5
pins: 1, 2

## UCY2W220MHD
designator C?, comment 22uF  (value not drawn)
CAP ALUM 22UF 20% 450V RADIAL; Part Number: UCY2W220MHD; Manufacturer: Nichicon; TemperatureRange: -25C ~ 105C; Type: Polar; Ripple Current: 300mA @ 120Hz; Value: 22uF; PartId: 23740; Supplier 1: Digi-Key; Supplier Part Number 1: 493-6894-ND; ComponentLink1Description: Datasheet; ComponentLink1URL: http://nichicon-us.com/english/products/pdfs/e-ucy.pdf; ComponentLink2Description: Digi-Key Listing; ComponentLink2URL: https://www.digikey.com/product-detail/en/nichicon/UCY2W220MHD/493-6894-ND/3664500; Tolerance: 20%; Voltage: 450V; Price: 1.55; Device Package: Radial, Can, 12.5mm
footprint CAP AL TH D12.5 L5 H26.5
pins: 1, 2

## UCY2W220MHD1TO
designator C?, comment 22uF  (value not drawn)
CAP ALUM 22UF 20% 450V RADIAL; Part Number: UCY2W220MHD1TO; Manufacturer: Nichicon; TemperatureRange: -25C ~ 105C; Type: Polar; Ripple Current: 300mA; Value: 22uF; PartId: 23757; Supplier 1: Digi-Key; Supplier Part Number 1: 493-13338-1-ND; ComponentLink1Description: Datasheet; ComponentLink1URL: http://nichicon-us.com/english/products/pdfs/e-ucy.pdf; ComponentLink2Description: Digi-Key Listing; ComponentLink2URL: https://www.digikey.com/product-detail/en/nichicon/UCY2W220MHD1TO/493-13338-1-ND/4333081; Tolerance: 20%; Voltage: 450V; Price: 1.74; Device Package: Radial, Can, 12.5mm
footprint CAP AL TH D12.5 L5 H26.5
pins: 1, 2

## UCY2W270MHD
designator C?, comment 27uF  (value not drawn)
CAP ALUM 27UF 20% 450V RADIAL; Part Number: UCY2W270MHD; Manufacturer: Nichicon; TemperatureRange: -25C ~ 105C; Type: Polar; Ripple Current: 340mA @ 120Hz; Value: 27uF; PartId: 23745; Supplier 1: Digi-Key; Supplier Part Number 1: 493-6905-ND; ComponentLink1Description: Datasheet; ComponentLink1URL: http://nichicon-us.com/english/products/pdfs/e-ucy.pdf; ComponentLink2Description: Digi-Key Listing; ComponentLink2URL: https://www.digikey.com/product-detail/en/nichicon/UCY2W270MHD/493-6905-ND/3664342; Tolerance: 20%; Voltage: 450V; Price: 1.65; Device Package: Radial, Can, 12.5mm
footprint CAP AL TH D12.5 L5 H26.5
pins: 1, 2

## UCY2W270MHD1TO
designator C?, comment 27uF  (value not drawn)
CAP ALUM 27UF 20% 450V RADIAL; Part Number: UCY2W270MHD1TO; Manufacturer: Nichicon; TemperatureRange: -25C ~ 105C; Type: Polar; Ripple Current: 340mA @ 120Hz; Value: 27uF; PartId: 23647; Supplier 1: Digi-Key; Supplier Part Number 1: 493-13339-3-ND; ComponentLink1Description: Datasheet; ComponentLink1URL: http://nichicon-us.com/english/products/pdfs/e-ucy.pdf; ComponentLink2Description: Digi-Key Listing; ComponentLink2URL: https://www.digikey.com/product-detail/en/nichicon/UCY2W270MHD1TO/493-13339-3-ND/4332970; Tolerance: 20%; Voltage: 450V; Price: 0.7367; Device Package: Radial, Can, 12.5mm
footprint CAP AL TH D12.5 L5 H26.5
pins: 1, 2

## UCY2W330MHD
designator C?, comment 33uF  (value not drawn)
CAP ALUM 33UF 20% 450V RADIAL; Part Number: UCY2W330MHD; Manufacturer: Nichicon; TemperatureRange: -25C ~ 105C; Type: Polar; Ripple Current: 400mA @ 120Hz; Value: 33uF; PartId: 24388; Supplier 1: Digi-Key; Supplier Part Number 1: 493-6904-ND; ComponentLink1Description: Datasheet; ComponentLink1URL: http://nichicon-us.com/english/products/pdfs/e-ucy.pdf; ComponentLink2Description: Digi-Key Listing; ComponentLink2URL: https://www.digikey.com/product-detail/en/nichicon/UCY2W330MHD/493-6904-ND/3664356; Tolerance: 20%; Voltage: 450V; Price: 1.78; Device Package: Radial, Can, 12.5mm
footprint CAP AL TH D12.5 L5 H35.5
pins: 1, 2

## UCY2W470MHD6
designator C?, comment 47uF  (value not drawn)
CAP ALUM 47UF 20% 450V RADIAL; Part Number: UCY2W470MHD6; Manufacturer: Nichicon; TemperatureRange: -25C ~ 105C; Type: Polar; Ripple Current: 500mA @ 120Hz; Value: 47uF; PartId: 26712; Supplier 1: Digi-Key; Supplier Part Number 1: 493-6898-ND; ComponentLink1Description: Datasheet; ComponentLink1URL: http://nichicon-us.com/english/products/pdfs/e-ucy.pdf; ComponentLink2Description: Digi-Key Listing; ComponentLink2URL: https://www.digikey.com/product-detail/en/nichicon/UCY2W470MHD6/493-6898-ND/3664397; Tolerance: 20%; Voltage: 450V; Price: 2.42; Device Package: Radial, Can, 16mm
footprint CAP AL TH D16 L7.5 H26.5
pins: 1, 2

## UCY2W470MHD6TN
designator C?, comment 47uF  (value not drawn)
CAP ALUM 47UF 20% 450V RADIAL; Part Number: UCY2W470MHD6TN; Manufacturer: Nichicon; TemperatureRange: -25C ~ 105C; Type: Polar; Ripple Current: 500mA @ 120Hz; Value: 47uF; PartId: 26591; Supplier 1: Digi-Key; Supplier Part Number 1: 493-13342-3-ND; ComponentLink1Description: Datasheet; ComponentLink1URL: http://nichicon-us.com/english/products/pdfs/e-ucy.pdf; ComponentLink2Description: Digi-Key Listing; ComponentLink2URL: https://www.digikey.com/product-detail/en/nichicon/UCY2W470MHD6TN/493-13342-3-ND/4332973; Tolerance: 20%; Voltage: 450V; Price: 1.283; Device Package: Radial, Can, 16mm
footprint CAP AL TH D16 L7.5 H26.5
pins: 1, 2

## UCY2W560MHD
designator C?, comment 56uF  (value not drawn)
CAP ALUM 56UF 20% 450V RADIAL; Part Number: UCY2W560MHD; Manufacturer: Nichicon; TemperatureRange: -25C ~ 105C; Type: Polar; Ripple Current: 585mA @ 120Hz; Value: 56uF; PartId: 27266; Supplier 1: Digi-Key; Supplier Part Number 1: 493-6982-ND; ComponentLink1Description: Datasheet; ComponentLink1URL: http://nichicon-us.com/english/products/pdfs/e-ucy.pdf; ComponentLink2Description: Digi-Key Listing; ComponentLink2URL: https://www.digikey.com/product-detail/en/nichicon/UCY2W560MHD/493-6982-ND/3664472; Tolerance: 20%; Voltage: 450V; Price: 2.95; Device Package: Radial, Can, 16mm
footprint CAP AL TH D16 L7.5 H33.5
pins: 1, 2

## UCY2W680MHD
designator C?, comment 68uF  (value not drawn)
CAP ALUM 68UF 20% 450V RADIAL; Part Number: UCY2W680MHD; Manufacturer: Nichicon; TemperatureRange: -25C ~ 105C; Type: Polar; Ripple Current: 660mA @ 120Hz; Value: 68uF; PartId: 27431; Supplier 1: Digi-Key; Supplier Part Number 1: 493-6856-ND; ComponentLink1Description: Datasheet; ComponentLink1URL: http://nichicon-us.com/english/products/pdfs/e-ucy.pdf; ComponentLink2Description: Digi-Key Listing; ComponentLink2URL: https://www.digikey.com/product-detail/en/nichicon/UCY2W680MHD/493-6856-ND/3664420; Tolerance: 20%; Voltage: 450V; Price: 3.14; Device Package: Radial, Can, 16mm
footprint CAP AL TH D16 L7.5 H37
pins: 1, 2

## UCYW66R8MPD
designator C?, comment 6.8uF  (value not drawn)
CAP ALUM 6.8UF 20% 420V RADIAL; Part Number: UCYW66R8MPD; Manufacturer: Nichicon; TemperatureRange: -25C ~ 105C; Type: Polar; Ripple Current: 105mA @ 120Hz; Value: 6.8uF; PartId: 25413; Supplier 1: Digi-Key; Supplier Part Number 1: 493-6841-ND; ComponentLink1Description: Datasheet; ComponentLink1URL: http://nichicon-us.com/english/products/pdfs/e-ucy.pdf; ComponentLink2Description: Digi-Key Listing; ComponentLink2URL: https://www.digikey.com/product-detail/en/nichicon/UCYW66R8MPD/493-6841-ND/3664479; Tolerance: 20%; Voltage: 420V; Price: 0.84; Device Package: Radial, Can, 10mm
footprint CAP AL TH D10 L5 H17.5
pins: 1, 2

## UCYW66R8MPD1TD
designator C?, comment 6.8uF  (value not drawn)
CAP ALUM 6.8UF 20% 420V RADIAL; Part Number: UCYW66R8MPD1TD; Manufacturer: Nichicon; TemperatureRange: -25C ~ 105C; Type: Polar; Ripple Current: 105mA @ 120Hz; Value: 6.8uF; PartId: 25123; Supplier 1: Digi-Key; Supplier Part Number 1: 493-13354-3-ND; ComponentLink1Description: Datasheet; ComponentLink1URL: http://nichicon-us.com/english/products/pdfs/e-ucy.pdf; ComponentLink2Description: Digi-Key Listing; ComponentLink2URL: https://www.digikey.com/product-detail/en/nichicon/UCYW66R8MPD1TD/493-13354-3-ND/4332985; Tolerance: 20%; Voltage: 420V; Price: 0.3344; Device Package: Radial, Can, 10mm
footprint CAP AL TH D10 L5 H17.5
pins: 1, 2